# Altium footprint library PcbLib1.PcbLib: 2 footprints
Each footprint in its own frame and in the unit in brackets; x right, y up, seen from the top. Pads: shape width x height; smd on the part's side, far side on the other; paste and mask are expansions set on the pad; w line width, h text height; cw(c..) or ccw(c..) is an arc to the next point about the centre after c.
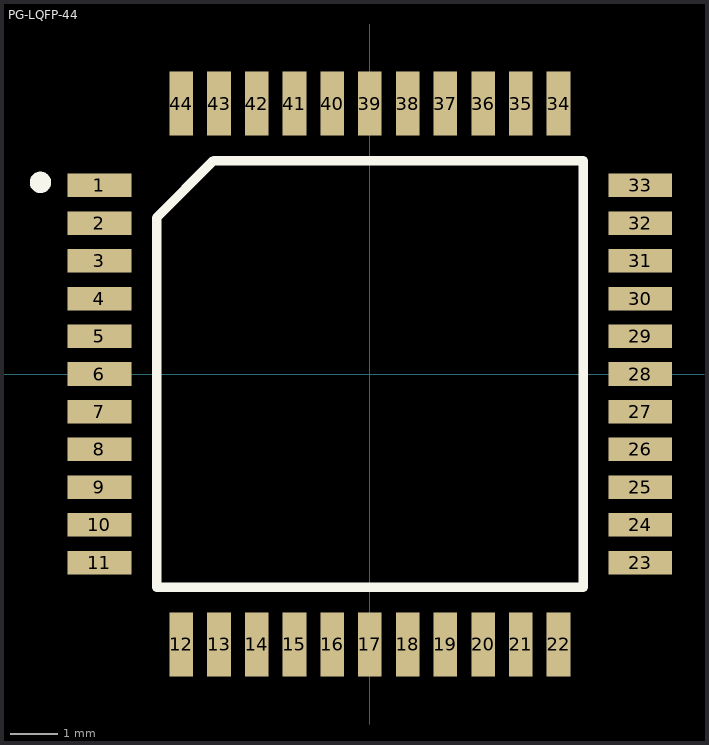
[diagram p0: the footprints below, top view; thin cyan lines are the x and y axes]

## PCBComponent_1 [mm]

## PG-LQFP-44 [mm]
pads (44):
  rect 1.35x0.5 smd: 1(-5.735,4) 2(-5.735,3.2) 3(-5.735,2.4) 4(-5.735,1.6) 5(-5.735,0.8) 6(-5.735,0) 7(-5.735,-0.8) 8(-5.735,-1.6) 9(-5.735,-2.4) 10(-5.735,-3.2) 11(-5.735,-4) 23(5.735,-4) 24(5.735,-3.2) 25(5.735,-2.4) 26(5.735,-1.6) 27(5.735,-0.8) 28(5.735,0) 29(5.735,0.8) 30(5.735,1.6) 31(5.735,2.4) 32(5.735,3.2) 33(5.735,4)
  rect 0.5x1.35 smd: 12(-4,-5.735) 13(-3.2,-5.735) 14(-2.4,-5.735) 15(-1.6,-5.735) 16(-0.8,-5.735) 17(0,-5.735) 18(0.8,-5.735) 19(1.6,-5.735) 20(2.4,-5.735) 21(3.2,-5.735) 22(4,-5.735) 34(4,5.735) 35(3.2,5.735) 36(2.4,5.735) 37(1.6,5.735) 38(0.8,5.735) 39(0,5.735) 40(-0.8,5.735) 41(-1.6,5.735) 42(-2.4,5.735) 43(-3.2,5.735) 44(-4,5.735)
Top Overlay:
  circle w0.254: c-6.985,4.064 r0.1
  lines w0.2: -4.525,-4.525 -4.525,3.315 -3.315,4.525 4.525,4.525 4.525,-4.525 -4.525,-4.525
3D body "User Library-lqfp44-1.STEP": height 1.5, standoff 0.02, extent -6,-6 6,6